# EAGLE library part 662022231722 (library Wurth_Elektronik_Electromechanic_Wire_to_Board_Connectors_rev16a)
WR-MPC3 3.00mm Male Dual Row SMT Angled Header SMT Fitting Nail Clip, 22 Pins=>Code : Con_WTB_MPC3_2_PCB_SMT_662022231722 <http://katalog.we-online.de/media/thumbs2/eican/thb_Con_WTB_MPC3_2_PCB_SMT_6620xx231722_pf2.jpg> Details see: http://katalog.we-online.de/en/em/662_0xx_231_722 Created 2014-06-06, Karrer Zheng 2014 (C) Würth Elektronik
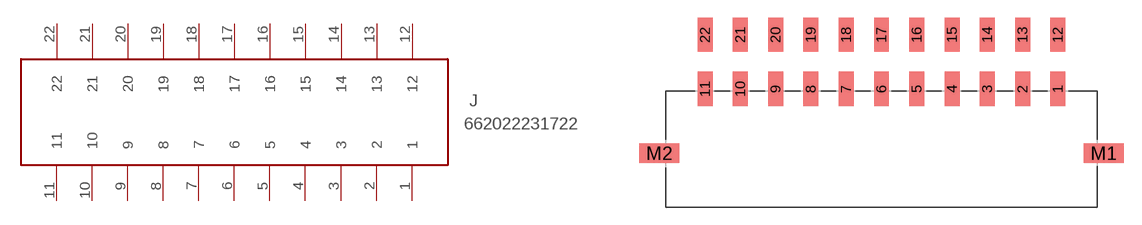
[diagram p398: symbol with the pads of 662022231722; footprint 662022231722]

Designator prefix J

## 662022231722  [662022231722]
1  1  pas
2  2  pas
3  3  pas
4  4  pas
5  5  sup
6  6  pas
7  7  pas
8  8  pas
9  9  pas
10  10  pas
11  11  pas
12  12  pas
13  13  pas
14  14  pas
15  15  pas
16  16  pas
17  17  pas
18  18  hiz
19  19  pas
20  20  pas
21  21  pas
22  22  pas

## Footprint 662022231722 (pad centres in mm)
WR-MPC3 3.00mm Male Dual Row SMT Angled Header SMT Fitting Nail Clip, 22 Pins
smd 1.27 x 2.92: 1 15,5.48; 2 12,5.48; 3 9,5.48; 4 6,5.48; 5 3,5.48; 6 0,5.48; 7 -3,5.48; 8 -6,5.48; 9 -9,5.48; 10 -12,5.48; 11 -15,5.48; 12 15,10.1; 13 12,10.1; 14 9,10.1; 15 6,10.1; 16 3,10.1; 17 0,10.1; 18 -3,10.1; 19 -6,10.1; 20 -9,10.1; 21 -12,10.1; 22 -15,10.1
smd 3.43 x 1.65: M1 18.895,0; M2 -18.895,0